# EAGLE library part A1391 (library PEDRO)
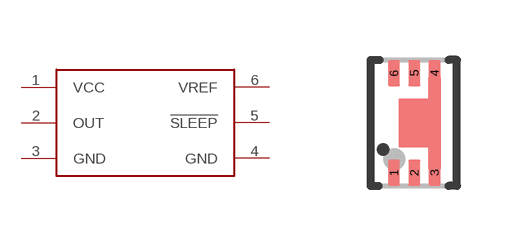
[diagram p1: symbol with the pads of DFN-6; footprint DFN-6]

Designator prefix -

## A1391DFN  [DFN-6]
1  VCC  pwr
2  OUT  out
3  GND  sup
4  GND  sup
5  !SLEEP  in
6  VREF  in

## Footprint DFN-6 (pad centres in mm)
smd 0.305 x 0.66: 1 0.584,0.33; 2 1.092,0.33; 3 1.6,0.33; 4 1.6,2.819; 5 1.092,2.819; 6 0.584,2.819